# EAGLE library part R_MODULE (library wheat)
RESISTOR MODULE DIP8
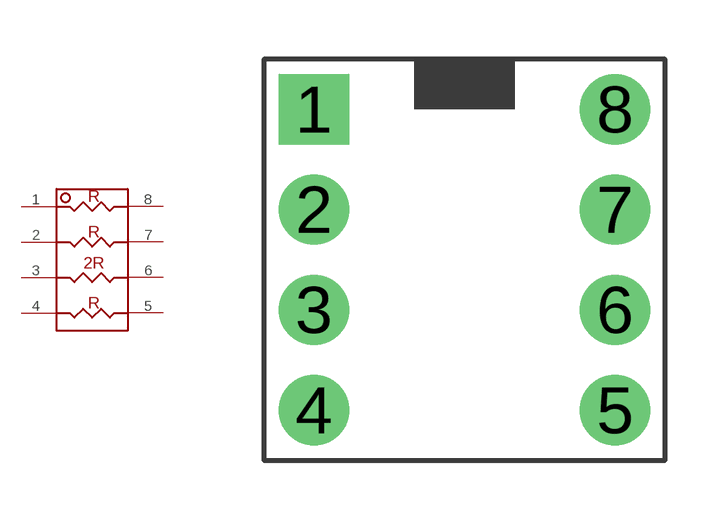
[diagram p14: symbol with the pads of R_MODULE; footprint R_MODULE]

Designator prefix RM

## R_MODULE  [R_MODULE]
1  1  pas
2  2  pas
3  3  pas
4  4  pas
5  5  pas
6  6  pas
7  7  pas
8  8  pas

## Footprint R_MODULE (pad centres in mm)
RESISTOR MODULE, DIP8
drill 0.813 pad 1.778 square: 1 0,0
drill 0.813 pad 1.778: 2 0,-2.54; 3 0,-5.08; 4 0,-7.62; 5 7.62,-7.62; 6 7.62,-5.08; 7 7.62,-2.54; 8 7.62,0